# Altium footprint library All.PcbLib: 121 footprints (part 5 of 8)
Each footprint in its own frame and in the unit in brackets; x right, y up, seen from the top. Pads: shape width x height; smd on the part's side, far side on the other; paste and mask are expansions set on the pad; w line width, h text height; cw(c..) or ccw(c..) is an arc to the next point about the centre after c.
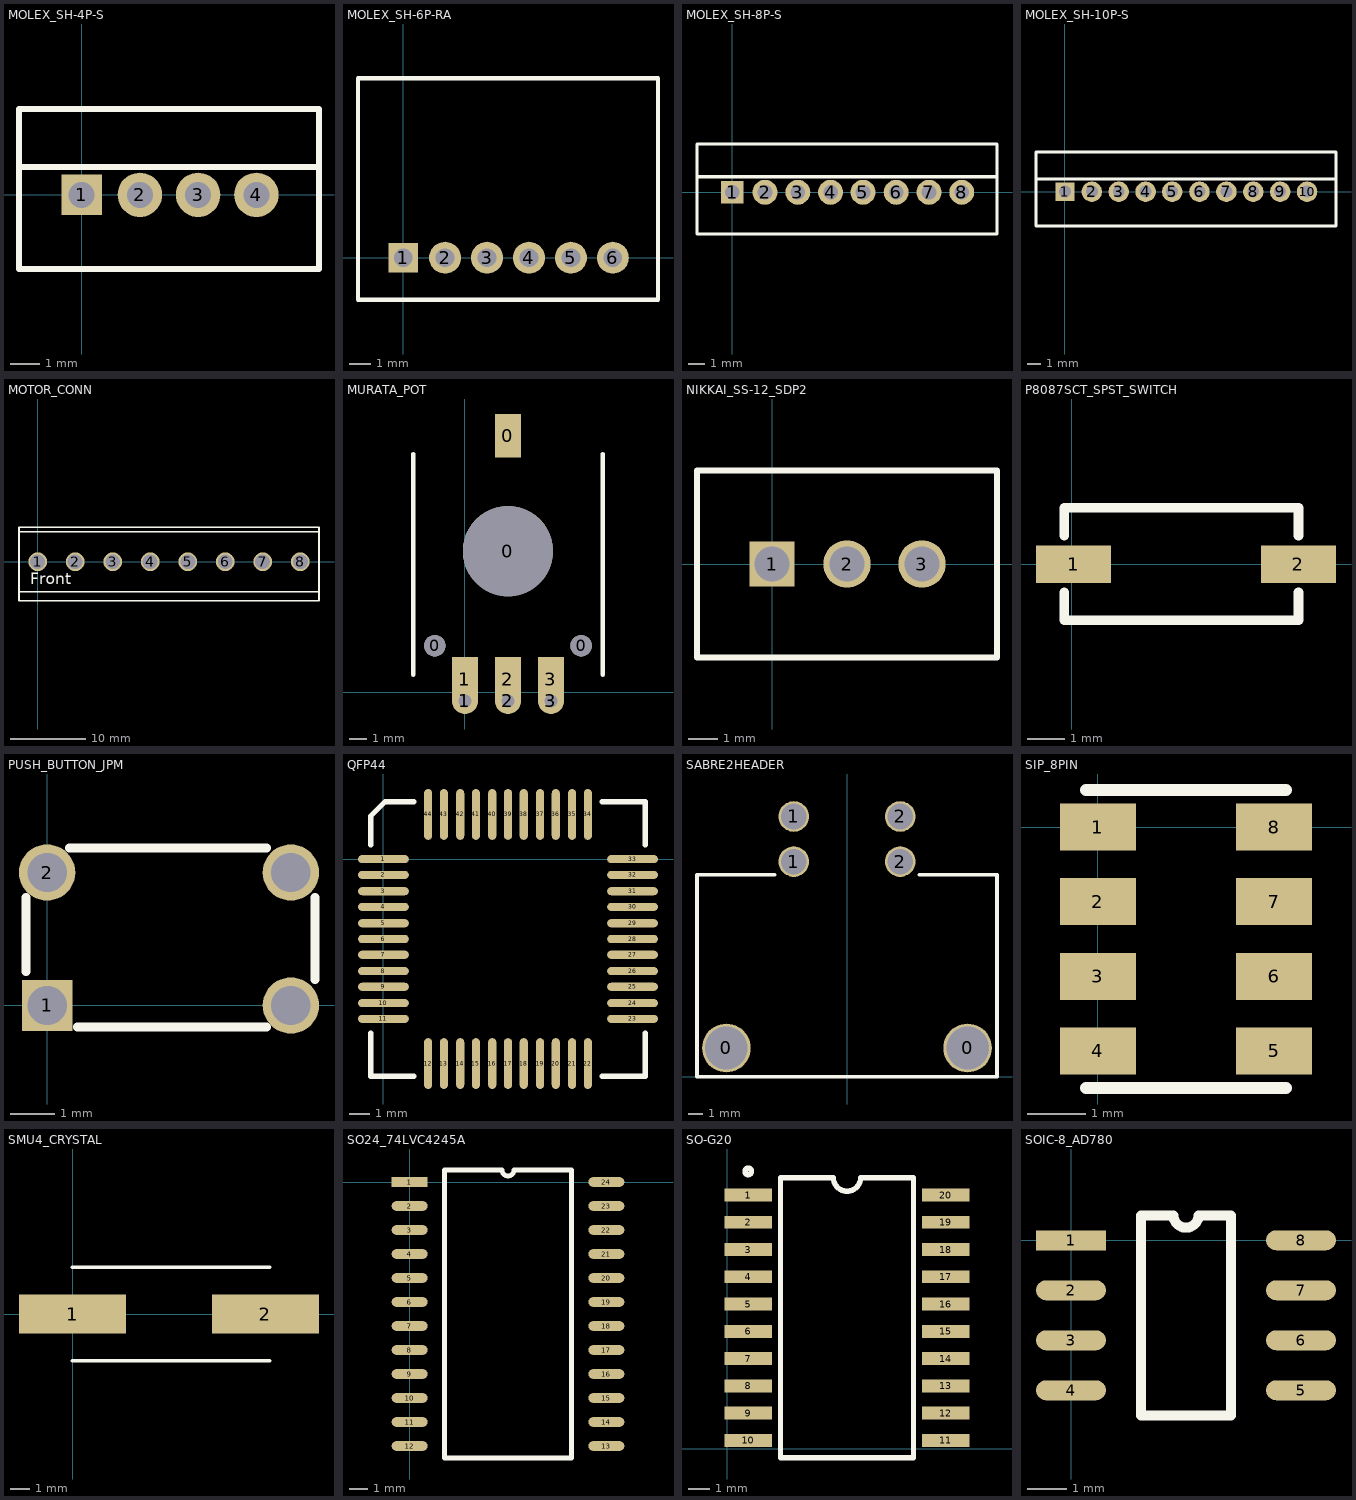
[diagram p4: the footprints below, top view; thin cyan lines are the x and y axes]

## MOLEX_SH-4P-S [mil] "Molex Sherlock 2 mm 4 pin straight header"
pads (4):
  rect 55x55 hole 35: 1(0,0)
  round 60 hole 35: 2(78.74,0) 3(157.48,0) 4(236.22,0)
Top Overlay:
  lines w8: -84.65,37.4 320.87,37.4 ; -84.65,-100.39 -84.65,116.14 320.87,116.14 320.87,-100.39 -84.65,-100.39

## MOLEX_SH-6P-RA [mil] "Molex Sherlock 2 mm 6 pin right angle header"
pads (6):
  rect 55x55 hole 35: 1(0,0)
  round 60 hole 35: 2(78.74,0) 3(157.48,0) 4(236.22,0) 5(314.96,0) 6(393.7,0)
Top Overlay:
  lines w8: -84.65,-78.74 478.35,-78.74 478.35,336.61 -84.65,336.61 -84.65,-78.74

## MOLEX_SH-8P-S [mil] "Molex Sherlock 2 mm 8pin straight header"
pads (8):
  rect 55x55 hole 35: 1(0,0)
  round 60 hole 35: 2(78.74,0) 3(157.48,0) 4(236.22,0) 5(313.96,0) 6(393.7,0) 7(472.44,0) 8(551.18,0)
Top Overlay:
  lines w8: -84.65,37.4 635.83,37.4 ; -84.65,-100.39 -84.65,116.14 635.83,116.14 635.83,-100.39 -84.65,-100.39

## MOLEX_SH-10P-S [mil] "Molex Sherlock 2 mm 10pin straight header"
pads (10):
  rect 55x55 hole 35: 1(0,0)
  round 60 hole 35: 2(78.74,0) 3(157.48,0) 4(236.22,0) 5(313.96,0) 6(393.7,0) 7(472.44,0) 8(551.18,0) 9(629.92,0) 10(708.66,0)
Top Overlay:
  lines w8: -84.65,37.4 793.31,37.4 ; -84.65,-100.39 793.31,-100.39 793.31,116.14 -84.65,116.14 -84.65,-100.39

## MOTOR_CONN [mm]
pads (8):
  round 2.5 hole 2: 1(0,0) 2(5,0) 3(10,0) 4(15,0) 5(20,0) 6(25,0) 7(30,0) 8(35,0)
Top Overlay:
  lines w0.254: -2.5,-4 37.5,-4 ; -2.5,4 37.5,4 ; -2.5,-5.2 -2.5,4.6 37.5,4.6 37.5,-5.2 -2.5,-5.2
  text "Front" at -1,-3 h1.52

## MURATA_POT [mil] "Murata Position Sensor SV01 series"
pads (10):
  round 49 hole 49: 0(-68.89,106.3) 0(265.74,106.3)
  round 206.7 hole 206.7: 0(98.42,322.83)
  rect 60x100 smd: 0(98.42,586.61) 1(0,30) 2(98.42,30) 3(196.85,30)
  round 60 hole 30: 1(0,-20) 2(98.42,-20) 3(196.85,-20)
Top Overlay:
  lines w10: -118,40 -118,545 ; 315,40 315,545

## NIKKAI_SS-12_SDP2 [mil] "Nikkai SS-12 on-on switch"
pads (3):
  rect 60x60 hole 47: 1(0,0)
  round 63 hole 47: 2(100,0) 3(200,0)
Top Overlay:
  lines w8: -100,-125 -100,125 300,125 300,-125 -100,-125

## P8087SCT_SPST_SWITCH [mm]
pads (2):
  rect 2x1 smd: 1(0.048,0) 2(6.048,0)
Top Overlay:
  lines w0.254: -0.202,-0.75 -0.202,-1.5 6.048,-1.5 6.048,-0.75 ; -0.202,0.75 -0.202,1.5 6.048,1.5 6.048,0.75

## PUSH_BUTTON_JPM [mil] "JPM Push Button Distrelec 201540"
pads (4):
  rect 45x45 hole 35: 1(0,0)
  round 50 hole 35: 2(0,118.11) ""(216.54,0) ""(216.54,118.11)
Top Overlay:
  lines w8: -19,30 -19,96 ; 20,140 195,140 ; 27,-19 195,-19 ; 238,23 238,96

## QFP44 [mil]
pads (44):
  oval 100x16 smd: 1(0,0) 2(0,-31) 3(0,-63) 4(0,-94) 5(0,-126) 6(0,-157) 7(0,-188) 8(0,-220) 9(0,-251) 10(0,-283) 11(0,-314) 23(490,-314) 24(490,-283) 25(490,-251) 26(490,-220) 27(490,-188) 28(490,-157) 29(490,-126) 30(490,-94) 31(490,-63) 32(490,-31) 33(490,0)
  oval 16x100 smd: 12(88,-402) 13(119,-402) 14(151,-402) 15(182,-402) 16(214,-402) 17(245,-402) 18(276,-402) 19(308,-402) 20(339,-402) 21(371,-402) 22(402,-402) 34(402,88) 35(371,88) 36(339,88) 37(308,88) 38(276,88) 39(245,88) 40(214,88) 41(182,88) 42(151,88) 43(119,88) 44(88,88)
Top Overlay:
  lines w10: -25,-342 -25,-427 60,-427 ; -25,28 -25,85 3,113 60,113 ; 430,-427 515,-427 515,-342 ; 430,113 515,113 515,28

## SABRE2HEADER [mil]
pads (6):
  round 135 hole 118: 0(-334.5,80) 0(334.5,80)
  round 85 hole 71: 1(-147.5,597) 1(-147.5,722) 2(147.5,597) 2(147.5,722)
Top Overlay:
  lines w10: -200,560 -416,560 -416,0 416,0 416,560 200,560

## SIP_8PIN [mm]
pads (8):
  rect 1.3x0.8 smd: 1(0,0) 2(0,-1.27) 3(0,-2.54) 4(0,-3.81) 5(3,-3.81) 6(3,-2.54) 7(3,-1.27) 8(3,0)
Top Overlay:
  lines w0.203: -0.2,-4.44 3.2,-4.44 ; -0.2,0.63 3.2,0.63

## SMU4_CRYSTAL [mm] "SMU4 SMD Quartz Crystal"
pads (2):
  rect 5.5x2 smd: 1(0,0) 2(9.9,0)
Top Overlay:
  lines w0.203: 0,-2.4 10.1,-2.4 ; 0,2.4 10.1,2.4

## SO24_74LVC4245A [mil]
pads (24):
  rect 75x20 smd: 1(0,0)
  oval 75x20 smd: 2(0,-50) 3(0,-100) 4(0,-150) 5(0,-200) 6(0,-250) 7(0,-300) 8(0,-350) 9(0,-400) 10(0,-450) 11(0,-500) 12(0,-550) 13(410,-550) 14(410,-500) 15(410,-450) 16(410,-400) 17(410,-350) 18(410,-300) 19(410,-250) 20(410,-200) 21(410,-150) 22(410,-100) 23(410,-50) 24(410,0)
Top Overlay:
  lines w10: 72.5,-575 72.5,25 192.5,25 ccw(c205,25) 217.5,25 337.5,25 337.5,-575 72.5,-575

## SO-G20 [mm]
pads (20):
  rect 2.2x0.6 smd: 1(0.988,11.811) 2(0.988,10.541) 3(0.988,9.271) 4(0.988,8.001) 5(0.988,6.731) 6(0.988,5.461) 7(0.988,4.191) 8(0.988,2.921) 9(0.988,1.651) 10(0.988,0.381) 11(10.188,0.381) 12(10.188,1.651) 13(10.188,2.921) 14(10.188,4.191) 15(10.188,5.461) 16(10.188,6.731) 17(10.188,8.001) 18(10.188,9.271) 19(10.188,10.541) 20(10.188,11.811)
Top Overlay:
  circle w0.25: c0.988,12.911 r0.15
  lines w0.25: 2.488,-0.429 2.488,12.621 4.953,12.621 ccw(c5.588,12.621) 6.223,12.621 8.688,12.621 8.688,-0.429 2.488,-0.429

## SOIC-8_AD780 [mil]
pads (8):
  rect 70x20 smd: 1(0,0)
  oval 70x20 smd: 2(0,-50) 3(0,-100) 4(0,-150) 5(230,-150) 6(230,-100) 7(230,-50) 8(230,0)
Top Overlay:
  lines w10: 70,-175 70,25 102.5,25 ccw(c115,25) 127.5,25 160,25 160,-175 70,-175